# EAGLE library part 691323300008 (library Wuerth_Elektronik_eiCan_Terminal_Blocks_v2.0)
WR-TBL Serie 3233 - 3.81mm Vertical PCB Header with Flanges , 8 pins
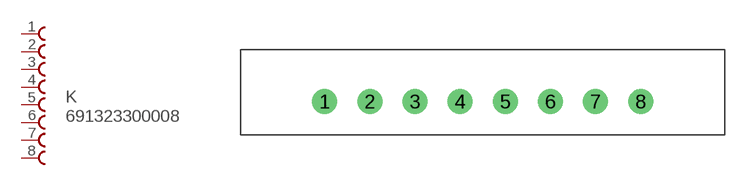
[diagram p37: symbol with the pads of 691323300008; footprint 691323300008]

Designator prefix K

## 691323300008  [691323300008]
1  1  pas
2  2  pas
3  3  pas
4  4  pas
5  5  pas
6  6  pas
7  7  pas
8  8  pas

## Footprint 691323300008 (pad centres in mm)
WR-TBL Serie 3233 - 3.81mm Vertical PCB Header with Flanges , 8 pins
drill 1.4 round: 1 -15.24,0; 2 -11.43,0; 3 -7.62,0; 4 -3.81,0; 5 0,0; 6 3.81,0; 7 7.62,0; 8 11.43,0